# EAGLE library part P1 (library Particle-Devices)
Particle P1 module (WiFi with antenna) Product datasheet: here <https://docs.particle.io/datasheets/photon-(wifi)/p1-datasheet/> Github : Particle devices library <https://github.com/particle-iot/hardware-libraries/tree/master/Eagle>
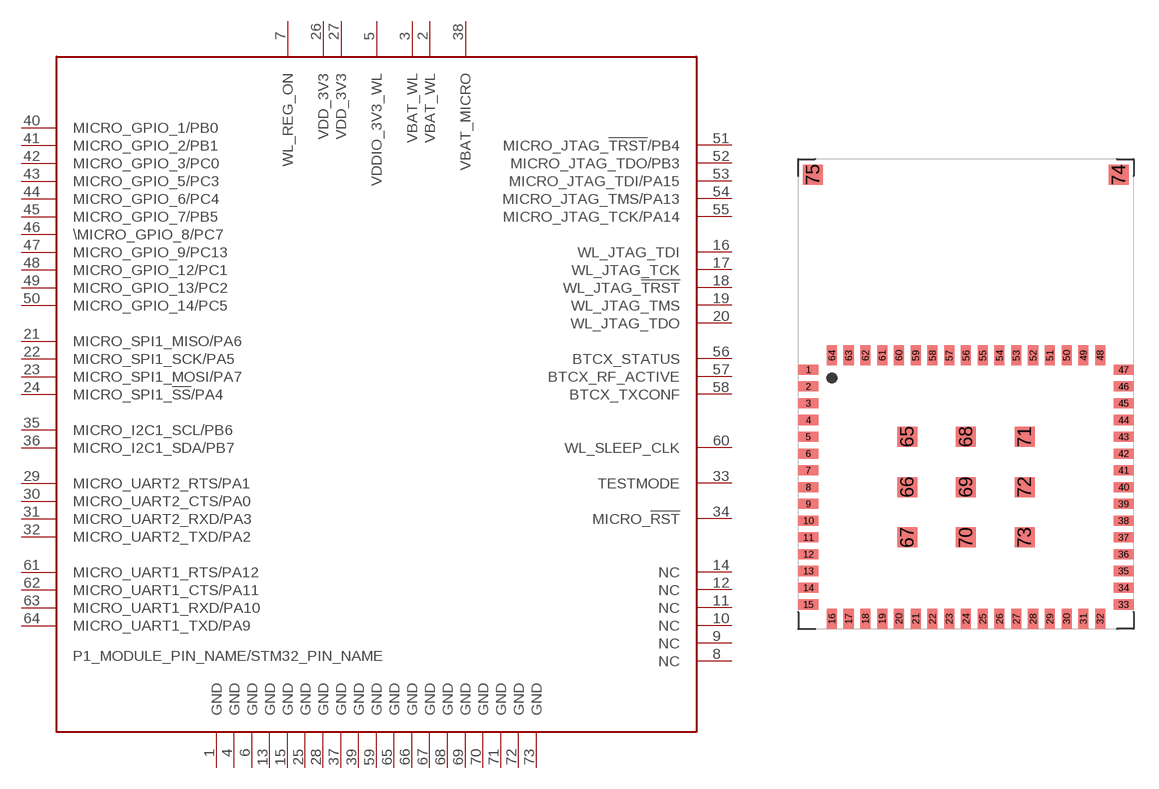
[diagram p5: symbol with the pads of WM-N-BM-14; footprint WM-N-BM-14]

Designator prefix -

## P1  [WM-N-BM-14]
1  GND
2  VBAT_WL
3  VBAT_WL
4  GND
5  VDDIO_3V3_WL
6  GND
7  WL_REG_ON
8  NC
9  NC
10  NC
11  NC
12  NC
13  GND
14  NC
15  GND
16  WL_JTAG_TDI
17  WL_JTAG_TCK
18  WL_JTAG_!TRST!
19  WL_JTAG_TMS
20  WL_JTAG_TDO
21  MICRO_SPI1_MISO/PA6
22  MICRO_SPI1_SCK/PA5
23  MICRO_SPI1_MOSI/PA7
24  MICRO_SPI1_!SS!/PA4
25  GND
26  VDD_3V3
27  VDD_3V3
28  GND
29  MICRO_UART2_RTS/PA1
30  MICRO_UART2_CTS/PA0
31  MICRO_UART2_RXD/PA3
32  MICRO_UART2_TXD/PA2
33  TESTMODE
34  MICRO_!RST!
35  MICRO_I2C1_SCL/PB6
36  MICRO_I2C1_SDA/PB7
37  GND
38  VBAT_MICRO
39  GND
40  MICRO_GPIO_1/PB0
41  MICRO_GPIO_2/PB1
42  MICRO_GPIO_3/PC0
43  MICRO_GPIO_5/PC3
44  MICRO_GPIO_6/PC4
45  MICRO_GPIO_7/PB5
46  \MICRO_GPIO_8/PC7
47  MICRO_GPIO_9/PC13
48  MICRO_GPIO_12/PC1
49  MICRO_GPIO_13/PC2
50  MICRO_GPIO_14/PC5
51  MICRO_JTAG_!TRST!/PB4
52  MICRO_JTAG_TDO/PB3
53  MICRO_JTAG_TDI/PA15
54  MICRO_JTAG_TMS/PA13
55  MICRO_JTAG_TCK/PA14
56  BTCX_STATUS
57  BTCX_RF_ACTIVE
58  BTCX_TXCONF
59  GND
60  WL_SLEEP_CLK
61  MICRO_UART1_RTS/PA12
62  MICRO_UART1_CTS/PA11
63  MICRO_UART1_RXD/PA10
64  MICRO_UART1_TXD/PA9
65  GND
66  GND
67  GND
68  GND
69  GND
70  GND
71  GND
72  GND
73  GND

## Footprint WM-N-BM-14 (pad centres in mm)
smd 1.2 x 0.6: 1 0.6,15.45; 2 0.6,14.45; 3 0.6,13.45; 4 0.6,12.45; 5 0.6,11.45; 6 0.6,10.45; 7 0.6,9.45; 8 0.6,8.45; 9 0.6,7.45; 10 0.6,6.45; 11 0.6,5.45; 12 0.6,4.45; 13 0.6,3.45; 14 0.6,2.45; 15 0.6,1.45; 33 19.4,1.45; 34 19.4,2.45; 35 19.4,3.45; 36 19.4,4.45; 37 19.4,5.45; 38 19.4,6.45; 39 19.4,7.45; 40 19.4,8.45; 41 19.4,9.45; 42 19.4,10.45; 43 19.4,11.45; 44 19.4,12.45; 45 19.4,13.45; 46 19.4,14.45; 47 19.4,15.45
smd 0.6 x 1.2: 16 2,0.6; 17 3,0.6; 18 4,0.6; 19 5,0.6; 20 6,0.6; 21 7,0.6; 22 8,0.6; 23 9,0.6; 24 10,0.6; 25 11,0.6; 26 12,0.6; 27 13,0.6; 28 14,0.6; 29 15,0.6; 30 16,0.6; 31 17,0.6; 32 18,0.6; 48 18,16.3; 49 17,16.3; 50 16,16.3; 51 15,16.3; 52 14,16.3; 53 13,16.3; 54 12,16.3; 55 11,16.3; 56 10,16.3; 57 9,16.3; 58 8,16.3; 59 7,16.3; 60 6,16.3; 61 5,16.3; 62 4,16.3; 63 3,16.3; 64 2,16.3
smd 1.2 x 1.2: 65 6.5,11.45; 66 6.5,8.45; 67 6.5,5.45; 68 10,11.45; 69 10,8.45; 70 10,5.45; 71 13.5,11.45; 72 13.5,8.45; 73 13.5,5.45; 74 19.12,27.07; 75 0.88,27.07